# Altium schematic symbol library MyLibs_Microcontrollers.SchLib: 5 symbols
Pins are listed as number, name and electrical type; pins without a type are passive.

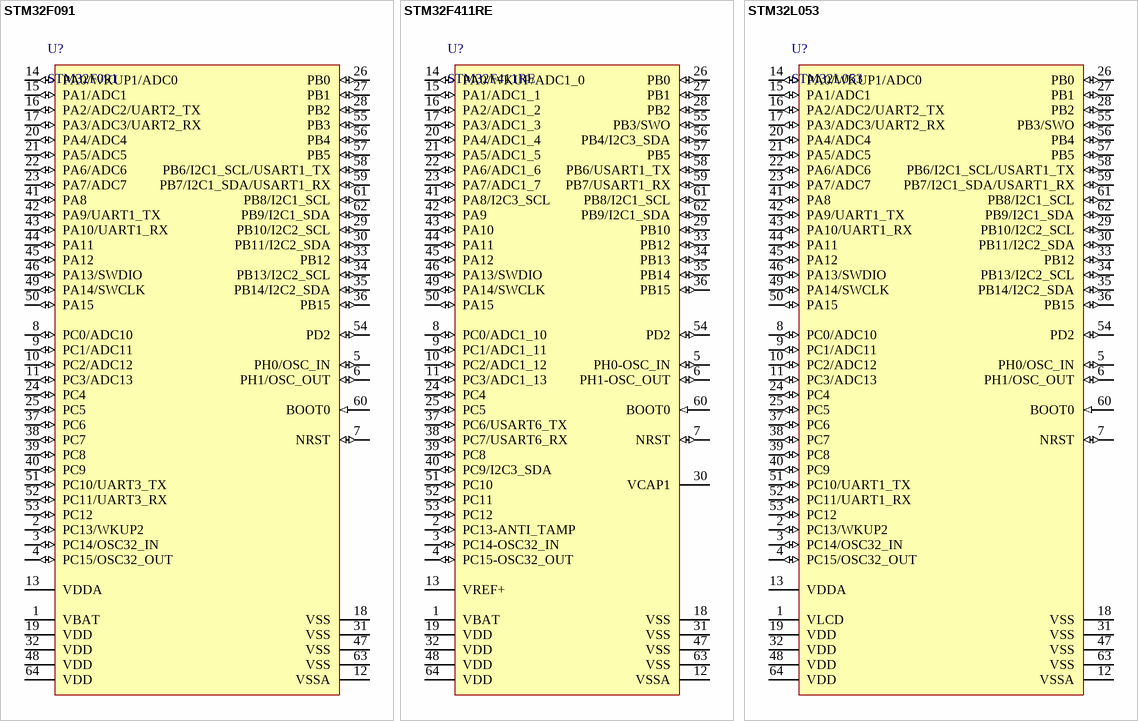
[diagram p0: symbols STM32F091 to STM32L053]

## STM32F091
designator U?
IC MCU 32BIT 256KB FLASH 64LQFP
pins: 1 VBAT (power), 2 PC13/WKUP2 (io) "PC13-ANTI_TAMP/RTC_AMP1,RTC_OUT,RTC_TS", 3 PC14/OSC32_IN (io), 4 PC15/OSC32_OUT (io), 5 PH0/OSC_IN (io), 6 PH1/OSC_OUT (io), 7 NRST (io) "NRST/EVENTOUT", 8 PC0/ADC10 (io) "PC0/EVENTOUT/ADC1_10", 9 PC1/ADC11 (io) "PC1/EVENTOUT/ADC1_11", 10 PC2/ADC12 (io) "PC2/SPI2_MISO,I2S2EXT_SD,EVENTOUT/ADC1_12", 11 PC3/ADC13 (io) "PC3/SPI2_MOSI/I2S2_SD,EVENTOUT/ADC1_13", 12 VSSA (power), 13 VDDA (power) "VREF+", 14 PA0/WKUP1/ADC0 (io) "PA0-WKUP/TIM2_CH1/TIM2_ET,TIM5_CH1,USART2_CTS,EVENTOUT/ADC1_0,WKUP1", 15 PA1/ADC1 (io) "PA1/TIM2_CH2,TIM5_CH2,SPI4_MOSI/I2S4_SD,USART2_RTS,EVENTOUT/ADC1_1", 16 PA2/ADC2/UART2_TX (io) "PA2/TIM2_CH3,TIM5_CH3,TIM9_CH1,I2S2_CKIN,USART2_TX,EVENTOUT/ADC1_2", 17 PA3/ADC3/UART2_RX (io) "PA3/TIM2_CH4,TIM5_CH4,TIM9_CH2,I2S2_MCK,USART2_RX,EVENTOUT/ADC1_3", 18 VSS (power), 19 VDD (power) "VDD/EVENTOUT", 20 PA4/ADC4 (io) "PA4/SPI1_NSS/I2S1_WS,SPI3_NSS/I2S3_WS,USART2_CK,EVENTOUT/ADC1_4", 21 PA5/ADC5 (io) "PA5/TIM2_CH1/TIM2_ET,SPI1_SCK/I2S1_CK,EVENTOUT/ADC1_5", 22 PA6/ADC6 (io) "PA6/TIM1_BKIN,TIM3_CH1,SPI1_MISO,I2S2_MCK,SDIO_CMD,EVENTOUT/ADC1_6", 23 PA7/ADC7 (io) "PA7/TIM1_CH1N,TIM3_CH2,SPI1_MOSI/I2S1_SD,EVENTOUT/ADC1_7", 24 PC4 (io) "PC4/EVENTOUT/ADC1_14", 25 PC5 (io) "PC5/EVENTOUT/ADC1_15", 26 PB0 (io) "PB0/TIM1_CH2N,TIM3_CH3,SPI5_SCK/I2S5_CK,EVENTOUT/ADC1_8", 27 PB1 (io) "PB1/TIM1_CH3N,TIM3_CH4,SPI5_NSS/I2S5_WS,EVENTOUT/ADC1_9", 28 PB2 (io) "PB2/EVENTOUT/BOOT1", 29 PB10/I2C2_SCL (io) "PB10/TIM2_CH3,I2C2_SCL,SPI2_SCK/I2S2_CK,I2S3_MCK,SDIO_D7,EVENTOUT", 30 PB11/I2C2_SDA (io) "VCAP1", 31 VSS (power), 32 VDD (power), 33 PB12 (io) "PB12/TIM1_BKIN,I2C2_SMBA,SPI2_NSS/I2S2_WS,SPI4_NSS/I2S4_WS,SPI3_SCK/I2S3_CK,EVENTOUT", 34 PB13/I2C2_SCL (io) "PB13/TIM1_CH1N,SPI2_SCK/I2S2_CK,SPI4_SCK/I2S4_CK,EVENTOUT", 35 PB14/I2C2_SDA (io) "PB14/TIM1_CH2N,SPI2_MISO,I2S2EXT_SD,SDIO_D6,EVENTOUT", 36 PB15 (io) "PB15/RTC_50Hz,TIM1_CH3N,SPI2_MOSI/I2S2_SD,SDIO_CK,EVENTOUT/RTC_REFIN", 37 PC6 (io) "PC6/TIM3_CH1,I2S2_MCK,USART6_TX,SDIO_D6,EVENTOUT", 38 PC7 (io) "PC7/TIM3_CH2,SPI2_SCK/I2S2_CK,I2S3_MCK,USART6_RX,SDIO_D7,EVENTOUT", 39 PC8 (io) "PC8/TIM3_CH3,USART6_CK,SDIO_D0,EVENTOUT", 40 PC9 (io) "PC9/MCO_2,TIM3_CH4,I2C3_SDA,I2S2_CKIN,SDIO_D1,EVENTOUT", 41 PA8 (io) "PA8/MCO_1,TIM1_CH1,I2C3_SCL,USART1_CK,USB_FS_SOF,SDIO_D1,EVENTOUT", 42 PA9/UART1_TX (io) "PA9/TIM1_CH2,I2C3_SMBA,USART1_TX,USB_FS_VBUS,SDIO_D2,EVENTOUT/OTG_FS_VBUS", 43 PA10/UART1_RX (io) "PA10/TIM1_CH3,SPI5_MOSI/I2S5_SD,USART1_RX,USB_FS_ID,EVENTOUT", 44 PA11 (io) "PA11/TIM1_CH4,SPI4_MISO,USART1_CTS,USART6_TX,USB_FS_DM,EVENTOUT", 45 PA12 (io) "PA12/TIM1_ETR,SPI5_MISO,USART1_RTS,USART6_RX,USB_FS_DP,EVENTOUT", 46 PA13/SWDIO (io) "PA13/JTMS-SWDIO,EVENTOUT", 47 VSS (power), 48 VDD (power), 49 PA14/SWCLK (io) "PA14/JTCK-SWCLK,EVENTOUT", 50 PA15 (io) "PA15/JTDI,TIM2_CH1/TIM2_ETR,SPI1_NSS/I2S1_WS,SPI3_NSS/I2S3_WS,USART1_TX,EVENTOUT", 51 PC10/UART3_TX (io) "PC10/SPI3_SCK/I2S3_CK,SDIO_D2,EVENTOUT", 52 PC11/UART3_RX (io) "PC11/I2S3EXT_SD,SPI3_MISO,SDIO_D3,EVENTOUT", 53 PC12 (io) "PC12/SPI3_MOSI/I2S3_SD,SDIO_CK,EVENTOUT", 54 PD2 (io) "PD2/TIM3_ETR,SDIO_CMD,EVENTOUT", 55 PB3 (io) "PB3/JTDO-SWO,TIM2_CH2,SPI1_SCK/I2S1_CK,SPI3_SCK/I2S3_CK,USART1_RX,I2C2_SDA,EVENTOUT", 56 PB4 (io) "PB4/JTRST,TIM3_CH1,SPI1_MISO,SPI3_MISO,I2S3EXT_SD,I2C3_SDA,SDIO_D0,EVENTOUT", 57 PB5 (io) "PB5/TIM3_CH2,I2C1_SMBA,SPI1_MOSI/I2S1_SD,SPI3_MOSI/I2S3_SD,SDIO_D3,EVENTOUT", 58 PB6/I2C1_SCL/USART1_TX (io) "PB6/TIM4_CH1,I2C1_SCL,USART1_TX,EVENTOUT", 59 PB7/I2C1_SDA/USART1_RX (io) "PB7/TIM4_CH2,I2C1_SDA,USART1_RX,SDIO_D0,EVENTOUT", 60 BOOT0 (in) "BOOT0/VPP", 61 PB8/I2C1_SCL (io) "PB8/TIM4_CH3,TIM10_CH1,I2C1_SCL,SPI5_MOSI/I2S5_SD,I2C3_SDA,SDIO_D4,EVENTOUT", 62 PB9/I2C1_SDA (io) "PB9/TIM4_CH4,TIM11_CH1,I2C1_SDA,SPI2_NSS/I2S2_WS,I2C2_SDA,SDIO_D5,EVENTOUT", 63 VSS (power), 64 VDD (power)

## STM32F411RE
designator U?
IC MCU 32BIT 512KB FLASH 64LQFP
pins: 1 VBAT (power), 2 PC13-ANTI_TAMP (io) "PC13-ANTI_TAMP/RTC_AMP1,RTC_OUT,RTC_TS", 3 PC14-OSC32_IN (io) "PC14/OSC32_IN", 4 PC15-OSC32_OUT (io) "PC15/OSC32_OUT", 5 PH0-OSC_IN (io) "PH0/OSC_IN", 6 PH1-OSC_OUT (io) "PH1/OSC_OUT", 7 NRST (io) "NRST/EVENTOUT", 8 PC0/ADC1_10 (io) "PC0/EVENTOUT/ADC1_10", 9 PC1/ADC1_11 (io) "PC1/EVENTOUT/ADC1_11", 10 PC2/ADC1_12 (io) "PC2/SPI2_MISO,I2S2EXT_SD,EVENTOUT/ADC1_12", 11 PC3/ADC1_13 (io) "PC3/SPI2_MOSI/I2S2_SD,EVENTOUT/ADC1_13", 12 VSSA (power), 13 VREF+ (power), 14 PA0/WKUP/ADC1_0 (io) "PA0-WKUP/TIM2_CH1/TIM2_ET,TIM5_CH1,USART2_CTS,EVENTOUT/ADC1_0,WKUP1", 15 PA1/ADC1_1 (io) "PA1/TIM2_CH2,TIM5_CH2,SPI4_MOSI/I2S4_SD,USART2_RTS,EVENTOUT/ADC1_1", 16 PA2/ADC1_2 (io) "PA2/TIM2_CH3,TIM5_CH3,TIM9_CH1,I2S2_CKIN,USART2_TX,EVENTOUT/ADC1_2", 17 PA3/ADC1_3 (io) "PA3/TIM2_CH4,TIM5_CH4,TIM9_CH2,I2S2_MCK,USART2_RX,EVENTOUT/ADC1_3", 18 VSS (power), 19 VDD (power) "VDD/EVENTOUT", 20 PA4/ADC1_4 (io) "PA4/SPI1_NSS/I2S1_WS,SPI3_NSS/I2S3_WS,USART2_CK,EVENTOUT/ADC1_4", 21 PA5/ADC1_5 (io) "PA5/TIM2_CH1/TIM2_ET,SPI1_SCK/I2S1_CK,EVENTOUT/ADC1_5", 22 PA6/ADC1_6 (io) "PA6/TIM1_BKIN,TIM3_CH1,SPI1_MISO,I2S2_MCK,SDIO_CMD,EVENTOUT/ADC1_6", 23 PA7/ADC1_7 (io) "PA7/TIM1_CH1N,TIM3_CH2,SPI1_MOSI/I2S1_SD,EVENTOUT/ADC1_7", 24 PC4 (io) "PC4/EVENTOUT/ADC1_14", 25 PC5 (io) "PC5/EVENTOUT/ADC1_15", 26 PB0 (io) "PB0/TIM1_CH2N,TIM3_CH3,SPI5_SCK/I2S5_CK,EVENTOUT/ADC1_8", 27 PB1 (io) "PB1/TIM1_CH3N,TIM3_CH4,SPI5_NSS/I2S5_WS,EVENTOUT/ADC1_9", 28 PB2 (io) "PB2/EVENTOUT/BOOT1", 29 PB10 (io) "PB10/TIM2_CH3,I2C2_SCL,SPI2_SCK/I2S2_CK,I2S3_MCK,SDIO_D7,EVENTOUT", 30 VCAP1, 31 VSS (power), 32 VDD (power), 33 PB12 (io) "PB12/TIM1_BKIN,I2C2_SMBA,SPI2_NSS/I2S2_WS,SPI4_NSS/I2S4_WS,SPI3_SCK/I2S3_CK,EVENTOUT", 34 PB13 (io) "PB13/TIM1_CH1N,SPI2_SCK/I2S2_CK,SPI4_SCK/I2S4_CK,EVENTOUT", 35 PB14 (io) "PB14/TIM1_CH2N,SPI2_MISO,I2S2EXT_SD,SDIO_D6,EVENTOUT", 36 PB15 (io) "PB15/RTC_50Hz,TIM1_CH3N,SPI2_MOSI/I2S2_SD,SDIO_CK,EVENTOUT/RTC_REFIN", 37 PC6/USART6_TX (io) "PC6/TIM3_CH1,I2S2_MCK,USART6_TX,SDIO_D6,EVENTOUT", 38 PC7/USART6_RX (io) "PC7/TIM3_CH2,SPI2_SCK/I2S2_CK,I2S3_MCK,USART6_RX,SDIO_D7,EVENTOUT", 39 PC8 (io) "PC8/TIM3_CH3,USART6_CK,SDIO_D0,EVENTOUT", 40 PC9/I2C3_SDA (io) "PC9/MCO_2,TIM3_CH4,I2C3_SDA,I2S2_CKIN,SDIO_D1,EVENTOUT", 41 PA8/I2C3_SCL (io) "PA8/MCO_1,TIM1_CH1,I2C3_SCL,USART1_CK,USB_FS_SOF,SDIO_D1,EVENTOUT", 42 PA9 (io) "PA9/TIM1_CH2,I2C3_SMBA,USART1_TX,USB_FS_VBUS,SDIO_D2,EVENTOUT/OTG_FS_VBUS", 43 PA10 (io) "PA10/TIM1_CH3,SPI5_MOSI/I2S5_SD,USART1_RX,USB_FS_ID,EVENTOUT", 44 PA11 (io) "PA11/TIM1_CH4,SPI4_MISO,USART1_CTS,USART6_TX,USB_FS_DM,EVENTOUT", 45 PA12 (io) "PA12/TIM1_ETR,SPI5_MISO,USART1_RTS,USART6_RX,USB_FS_DP,EVENTOUT", 46 PA13/SWDIO (io) "PA13/JTMS-SWDIO,EVENTOUT", 47 VSS (power), 48 VDD (power), 49 PA14/SWCLK (io) "PA14/JTCK-SWCLK,EVENTOUT", 50 PA15 (io) "PA15/JTDI,TIM2_CH1/TIM2_ETR,SPI1_NSS/I2S1_WS,SPI3_NSS/I2S3_WS,USART1_TX,EVENTOUT", 51 PC10 (io) "PC10/SPI3_SCK/I2S3_CK,SDIO_D2,EVENTOUT", 52 PC11 (io) "PC11/I2S3EXT_SD,SPI3_MISO,SDIO_D3,EVENTOUT", 53 PC12 (io) "PC12/SPI3_MOSI/I2S3_SD,SDIO_CK,EVENTOUT", 54 PD2 (io) "PD2/TIM3_ETR,SDIO_CMD,EVENTOUT", 55 PB3/SWO (io) "PB3/JTDO-SWO,TIM2_CH2,SPI1_SCK/I2S1_CK,SPI3_SCK/I2S3_CK,USART1_RX,I2C2_SDA,EVENTOUT", 56 PB4/I2C3_SDA (io) "PB4/JTRST,TIM3_CH1,SPI1_MISO,SPI3_MISO,I2S3EXT_SD,I2C3_SDA,SDIO_D0,EVENTOUT", 57 PB5 (io) "PB5/TIM3_CH2,I2C1_SMBA,SPI1_MOSI/I2S1_SD,SPI3_MOSI/I2S3_SD,SDIO_D3,EVENTOUT", 58 PB6/USART1_TX (io) "PB6/TIM4_CH1,I2C1_SCL,USART1_TX,EVENTOUT", 59 PB7/USART1_RX (io) "PB7/TIM4_CH2,I2C1_SDA,USART1_RX,SDIO_D0,EVENTOUT", 60 BOOT0 (in) "BOOT0/VPP", 61 PB8/I2C1_SCL (io) "PB8/TIM4_CH3,TIM10_CH1,I2C1_SCL,SPI5_MOSI/I2S5_SD,I2C3_SDA,SDIO_D4,EVENTOUT", 62 PB9/I2C1_SDA (io) "PB9/TIM4_CH4,TIM11_CH1,I2C1_SDA,SPI2_NSS/I2S2_WS,I2C2_SDA,SDIO_D5,EVENTOUT", 63 VSS (power), 64 VDD (power)

## STM32L053
designator U?
IC MCU 32BIT 64KB FLASH 64LQFP
pins: 1 VLCD (power) "VBAT", 2 PC13/WKUP2 (io) "PC13-ANTI_TAMP/RTC_AMP1,RTC_OUT,RTC_TS", 3 PC14/OSC32_IN (io), 4 PC15/OSC32_OUT (io), 5 PH0/OSC_IN (io), 6 PH1/OSC_OUT (io), 7 NRST (io) "NRST/EVENTOUT", 8 PC0/ADC10 (io) "PC0/EVENTOUT/ADC1_10", 9 PC1/ADC11 (io) "PC1/EVENTOUT/ADC1_11", 10 PC2/ADC12 (io) "PC2/SPI2_MISO,I2S2EXT_SD,EVENTOUT/ADC1_12", 11 PC3/ADC13 (io) "PC3/SPI2_MOSI/I2S2_SD,EVENTOUT/ADC1_13", 12 VSSA (power), 13 VDDA (power) "VREF+", 14 PA0/WKUP1/ADC0 (io) "PA0-WKUP/TIM2_CH1/TIM2_ET,TIM5_CH1,USART2_CTS,EVENTOUT/ADC1_0,WKUP1", 15 PA1/ADC1 (io) "PA1/TIM2_CH2,TIM5_CH2,SPI4_MOSI/I2S4_SD,USART2_RTS,EVENTOUT/ADC1_1", 16 PA2/ADC2/UART2_TX (io) "PA2/TIM2_CH3,TIM5_CH3,TIM9_CH1,I2S2_CKIN,USART2_TX,EVENTOUT/ADC1_2", 17 PA3/ADC3/UART2_RX (io) "PA3/TIM2_CH4,TIM5_CH4,TIM9_CH2,I2S2_MCK,USART2_RX,EVENTOUT/ADC1_3", 18 VSS (power), 19 VDD (power) "VDD/EVENTOUT", 20 PA4/ADC4 (io) "PA4/SPI1_NSS/I2S1_WS,SPI3_NSS/I2S3_WS,USART2_CK,EVENTOUT/ADC1_4", 21 PA5/ADC5 (io) "PA5/TIM2_CH1/TIM2_ET,SPI1_SCK/I2S1_CK,EVENTOUT/ADC1_5", 22 PA6/ADC6 (io) "PA6/TIM1_BKIN,TIM3_CH1,SPI1_MISO,I2S2_MCK,SDIO_CMD,EVENTOUT/ADC1_6", 23 PA7/ADC7 (io) "PA7/TIM1_CH1N,TIM3_CH2,SPI1_MOSI/I2S1_SD,EVENTOUT/ADC1_7", 24 PC4 (io) "PC4/EVENTOUT/ADC1_14", 25 PC5 (io) "PC5/EVENTOUT/ADC1_15", 26 PB0 (io) "PB0/TIM1_CH2N,TIM3_CH3,SPI5_SCK/I2S5_CK,EVENTOUT/ADC1_8", 27 PB1 (io) "PB1/TIM1_CH3N,TIM3_CH4,SPI5_NSS/I2S5_WS,EVENTOUT/ADC1_9", 28 PB2 (io) "PB2/EVENTOUT/BOOT1", 29 PB10/I2C2_SCL (io) "PB10/TIM2_CH3,I2C2_SCL,SPI2_SCK/I2S2_CK,I2S3_MCK,SDIO_D7,EVENTOUT", 30 PB11/I2C2_SDA (io) "VCAP1", 31 VSS (power), 32 VDD (power), 33 PB12 (io) "PB12/TIM1_BKIN,I2C2_SMBA,SPI2_NSS/I2S2_WS,SPI4_NSS/I2S4_WS,SPI3_SCK/I2S3_CK,EVENTOUT", 34 PB13/I2C2_SCL (io) "PB13/TIM1_CH1N,SPI2_SCK/I2S2_CK,SPI4_SCK/I2S4_CK,EVENTOUT", 35 PB14/I2C2_SDA (io) "PB14/TIM1_CH2N,SPI2_MISO,I2S2EXT_SD,SDIO_D6,EVENTOUT", 36 PB15 (io) "PB15/RTC_50Hz,TIM1_CH3N,SPI2_MOSI/I2S2_SD,SDIO_CK,EVENTOUT/RTC_REFIN", 37 PC6 (io) "PC6/TIM3_CH1,I2S2_MCK,USART6_TX,SDIO_D6,EVENTOUT", 38 PC7 (io) "PC7/TIM3_CH2,SPI2_SCK/I2S2_CK,I2S3_MCK,USART6_RX,SDIO_D7,EVENTOUT", 39 PC8 (io) "PC8/TIM3_CH3,USART6_CK,SDIO_D0,EVENTOUT", 40 PC9 (io) "PC9/MCO_2,TIM3_CH4,I2C3_SDA,I2S2_CKIN,SDIO_D1,EVENTOUT", 41 PA8 (io) "PA8/MCO_1,TIM1_CH1,I2C3_SCL,USART1_CK,USB_FS_SOF,SDIO_D1,EVENTOUT", 42 PA9/UART1_TX (io) "PA9/TIM1_CH2,I2C3_SMBA,USART1_TX,USB_FS_VBUS,SDIO_D2,EVENTOUT/OTG_FS_VBUS", 43 PA10/UART1_RX (io) "PA10/TIM1_CH3,SPI5_MOSI/I2S5_SD,USART1_RX,USB_FS_ID,EVENTOUT", 44 PA11 (io) "PA11/TIM1_CH4,SPI4_MISO,USART1_CTS,USART6_TX,USB_FS_DM,EVENTOUT", 45 PA12 (io) "PA12/TIM1_ETR,SPI5_MISO,USART1_RTS,USART6_RX,USB_FS_DP,EVENTOUT", 46 PA13/SWDIO (io) "PA13/JTMS-SWDIO,EVENTOUT", 47 VSS (power), 48 VDD (power), 49 PA14/SWCLK (io) "PA14/JTCK-SWCLK,EVENTOUT", 50 PA15 (io) "PA15/JTDI,TIM2_CH1/TIM2_ETR,SPI1_NSS/I2S1_WS,SPI3_NSS/I2S3_WS,USART1_TX,EVENTOUT", 51 PC10/UART1_TX (io) "PC10/SPI3_SCK/I2S3_CK,SDIO_D2,EVENTOUT", 52 PC11/UART1_RX (io) "PC11/I2S3EXT_SD,SPI3_MISO,SDIO_D3,EVENTOUT", 53 PC12 (io) "PC12/SPI3_MOSI/I2S3_SD,SDIO_CK,EVENTOUT", 54 PD2 (io) "PD2/TIM3_ETR,SDIO_CMD,EVENTOUT", 55 PB3/SWO (io) "PB3/JTDO-SWO,TIM2_CH2,SPI1_SCK/I2S1_CK,SPI3_SCK/I2S3_CK,USART1_RX,I2C2_SDA,EVENTOUT", 56 PB4 (io) "PB4/JTRST,TIM3_CH1,SPI1_MISO,SPI3_MISO,I2S3EXT_SD,I2C3_SDA,SDIO_D0,EVENTOUT", 57 PB5 (io) "PB5/TIM3_CH2,I2C1_SMBA,SPI1_MOSI/I2S1_SD,SPI3_MOSI/I2S3_SD,SDIO_D3,EVENTOUT", 58 PB6/I2C1_SCL/USART1_TX (io) "PB6/TIM4_CH1,I2C1_SCL,USART1_TX,EVENTOUT", 59 PB7/I2C1_SDA/USART1_RX (io) "PB7/TIM4_CH2,I2C1_SDA,USART1_RX,SDIO_D0,EVENTOUT", 60 BOOT0 (in) "BOOT0/VPP", 61 PB8/I2C1_SCL (io) "PB8/TIM4_CH3,TIM10_CH1,I2C1_SCL,SPI5_MOSI/I2S5_SD,I2C3_SDA,SDIO_D4,EVENTOUT", 62 PB9/I2C1_SDA (io) "PB9/TIM4_CH4,TIM11_CH1,I2C1_SDA,SPI2_NSS/I2S2_WS,I2C2_SDA,SDIO_D5,EVENTOUT", 63 VSS (power), 64 VDD (power)

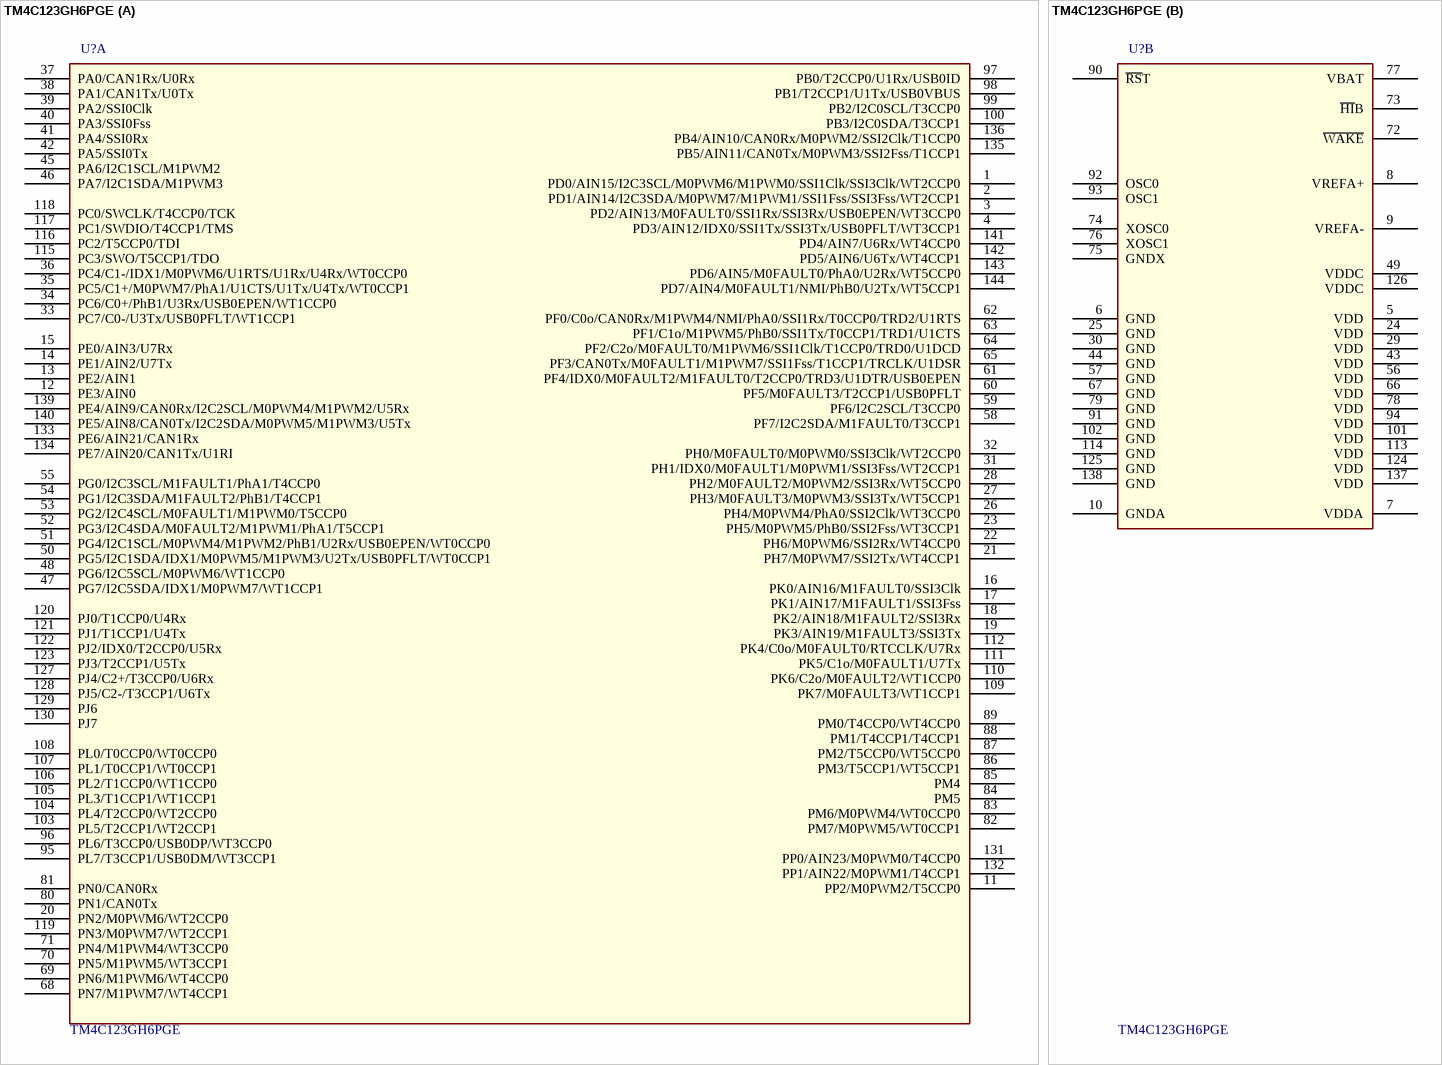
[diagram p1: symbol TM4C123GH6PGE]

## TM4C123GH6PGE
designator U?
ARM® Cortex®-M4F Tiva™ C Microcontroller IC 32-Bit 80MHz 256KB (256K x 8) FLASH 144-LQFP (20x20); Manufacturer: Texas Instruments; Manufacturer Part Number: TM4C123GH6PGE
footprint NXP LQFP-144 SOT486-1 (TQFP, 144-Leads, Body 20.00x20.00mm, Pitch 0.50mm, IPC Medium Density)
part A pins: 1 PD0/AIN15/I2C3SCL/M0PWM6/M1PWM0/SSI1Clk/SSI3Clk/WT2CCP0, 2 PD1/AIN14/I2C3SDA/M0PWM7/M1PWM1/SSI1Fss/SSI3Fss/WT2CCP1, 3 PD2/AIN13/M0FAULT0/SSI1Rx/SSI3Rx/USB0EPEN/WT3CCP0, 4 PD3/AIN12/IDX0/SSI1Tx/SSI3Tx/USB0PFLT/WT3CCP1, 11 PP2/M0PWM2/T5CCP0, 12 PE3/AIN0, 13 PE2/AIN1, 14 PE1/AIN2/U7Tx, 15 PE0/AIN3/U7Rx, 16 PK0/AIN16/M1FAULT0/SSI3Clk, 17 PK1/AIN17/M1FAULT1/SSI3Fss, 18 PK2/AIN18/M1FAULT2/SSI3Rx, 19 PK3/AIN19/M1FAULT3/SSI3Tx, 20 PN2/M0PWM6/WT2CCP0, 21 PH7/M0PWM7/SSI2Tx/WT4CCP1, 22 PH6/M0PWM6/SSI2Rx/WT4CCP0, 23 PH5/M0PWM5/PhB0/SSI2Fss/WT3CCP1, 26 PH4/M0PWM4/PhA0/SSI2Clk/WT3CCP0, 27 PH3/M0FAULT3/M0PWM3/SSI3Tx/WT5CCP1, 28 PH2/M0FAULT2/M0PWM2/SSI3Rx/WT5CCP0, 31 PH1/IDX0/M0FAULT1/M0PWM1/SSI3Fss/WT2CCP1, 32 PH0/M0FAULT0/M0PWM0/SSI3Clk/WT2CCP0, 33 PC7/C0-/U3Tx/USB0PFLT/WT1CCP1, 34 PC6/C0+/PhB1/U3Rx/USB0EPEN/WT1CCP0, 35 PC5/C1+/M0PWM7/PhA1/U1CTS/U1Tx/U4Tx/WT0CCP1, 36 PC4/C1-/IDX1/M0PWM6/U1RTS/U1Rx/U4Rx/WT0CCP0, 37 PA0/CAN1Rx/U0Rx, 38 PA1/CAN1Tx/U0Tx, 39 PA2/SSI0Clk, 40 PA3/SSI0Fss, 41 PA4/SSI0Rx, 42 PA5/SSI0Tx, 45 PA6/I2C1SCL/M1PWM2, 46 PA7/I2C1SDA/M1PWM3, 47 PG7/I2C5SDA/IDX1/M0PWM7/WT1CCP1, 48 PG6/I2C5SCL/M0PWM6/WT1CCP0, 50 PG5/I2C1SDA/IDX1/M0PWM5/M1PWM3/U2Tx/USB0PFLT/WT0CCP1, 51 PG4/I2C1SCL/M0PWM4/M1PWM2/PhB1/U2Rx/USB0EPEN/WT0CCP0, 52 PG3/I2C4SDA/M0FAULT2/M1PWM1/PhA1/T5CCP1, 53 PG2/I2C4SCL/M0FAULT1/M1PWM0/T5CCP0, 54 PG1/I2C3SDA/M1FAULT2/PhB1/T4CCP1, 55 PG0/I2C3SCL/M1FAULT1/PhA1/T4CCP0, 58 PF7/I2C2SDA/M1FAULT0/T3CCP1, 59 PF6/I2C2SCL/T3CCP0, 60 PF5/M0FAULT3/T2CCP1/USB0PFLT, 61 PF4/IDX0/M0FAULT2/M1FAULT0/T2CCP0/TRD3/U1DTR/USB0EPEN, 62 PF0/C0o/CAN0Rx/M1PWM4/NMI/PhA0/SSI1Rx/T0CCP0/TRD2/U1RTS, 63 PF1/C1o/M1PWM5/PhB0/SSI1Tx/T0CCP1/TRD1/U1CTS, 64 PF2/C2o/M0FAULT0/M1PWM6/SSI1Clk/T1CCP0/TRD0/U1DCD, 65 PF3/CAN0Tx/M0FAULT1/M1PWM7/SSI1Fss/T1CCP1/TRCLK/U1DSR, 68 PN7/M1PWM7/WT4CCP1, 69 PN6/M1PWM6/WT4CCP0, 70 PN5/M1PWM5/WT3CCP1, 71 PN4/M1PWM4/WT3CCP0, 80 PN1/CAN0Tx, 81 PN0/CAN0Rx, 82 PM7/M0PWM5/WT0CCP1, 83 PM6/M0PWM4/WT0CCP0, 84 PM5, 85 PM4, 86 PM3/T5CCP1/WT5CCP1, 87 PM2/T5CCP0/WT5CCP0, 88 PM1/T4CCP1/T4CCP1, 89 PM0/T4CCP0/WT4CCP0, 95 PL7/T3CCP1/USB0DM/WT3CCP1, 96 PL6/T3CCP0/USB0DP/WT3CCP0, 97 PB0/T2CCP0/U1Rx/USB0ID, 98 PB1/T2CCP1/U1Tx/USB0VBUS, 99 PB2/I2C0SCL/T3CCP0, 100 PB3/I2C0SDA/T3CCP1, 103 PL5/T2CCP1/WT2CCP1, 104 PL4/T2CCP0/WT2CCP0, 105 PL3/T1CCP1/WT1CCP1, 106 PL2/T1CCP0/WT1CCP0, 107 PL1/T0CCP1/WT0CCP1, 108 PL0/T0CCP0/WT0CCP0, 109 PK7/M0FAULT3/WT1CCP1, 110 PK6/C2o/M0FAULT2/WT1CCP0, 111 PK5/C1o/M0FAULT1/U7Tx, 112 PK4/C0o/M0FAULT0/RTCCLK/U7Rx, 115 PC3/SWO/T5CCP1/TDO, 116 PC2/T5CCP0/TDI, 117 PC1/SWDIO/T4CCP1/TMS, 118 PC0/SWCLK/T4CCP0/TCK, 119 PN3/M0PWM7/WT2CCP1, 120 PJ0/T1CCP0/U4Rx, 121 PJ1/T1CCP1/U4Tx, 122 PJ2/IDX0/T2CCP0/U5Rx, 123 PJ3/T2CCP1/U5Tx, 127 PJ4/C2+/T3CCP0/U6Rx, 128 PJ5/C2-/T3CCP1/U6Tx, 129 PJ6, 130 PJ7, 131 PP0/AIN23/M0PWM0/T4CCP0, 132 PP1/AIN22/M0PWM1/T4CCP1, 133 PE6/AIN21/CAN1Rx, 134 PE7/AIN20/CAN1Tx/U1RI, 135 PB5/AIN11/CAN0Tx/M0PWM3/SSI2Fss/T1CCP1, 136 PB4/AIN10/CAN0Rx/M0PWM2/SSI2Clk/T1CCP0, 139 PE4/AIN9/CAN0Rx/I2C2SCL/M0PWM4/M1PWM2/U5Rx, 140 PE5/AIN8/CAN0Tx/I2C2SDA/M0PWM5/M1PWM3/U5Tx, 141 PD4/AIN7/U6Rx/WT4CCP0, 142 PD5/AIN6/U6Tx/WT4CCP1, 143 PD6/AIN5/M0FAULT0/PhA0/U2Rx/WT5CCP0, 144 PD7/AIN4/M0FAULT1/NMI/PhB0/U2Tx/WT5CCP1
part B pins: 5 VDD, 6 GND, 7 VDDA, 8 VREFA+, 9 VREFA-, 10 GNDA, 24 VDD, 25 GND, 29 VDD, 30 GND, 43 VDD, 44 GND, 49 VDDC, 56 VDD, 57 GND, 66 VDD, 67 GND, 72 ~{WAKE}, 73 ~{HI}B, 74 XOSC0, 75 GNDX, 76 XOSC1, 77 VBAT, 78 VDD, 79 GND, 90 ~{RS}T, 91 GND, 92 OSC0, 93 OSC1, 94 VDD, 101 VDD, 102 GND, 113 VDD, 114 GND, 124 VDD, 125 GND, 126 VDDC, 137 VDD, 138 GND

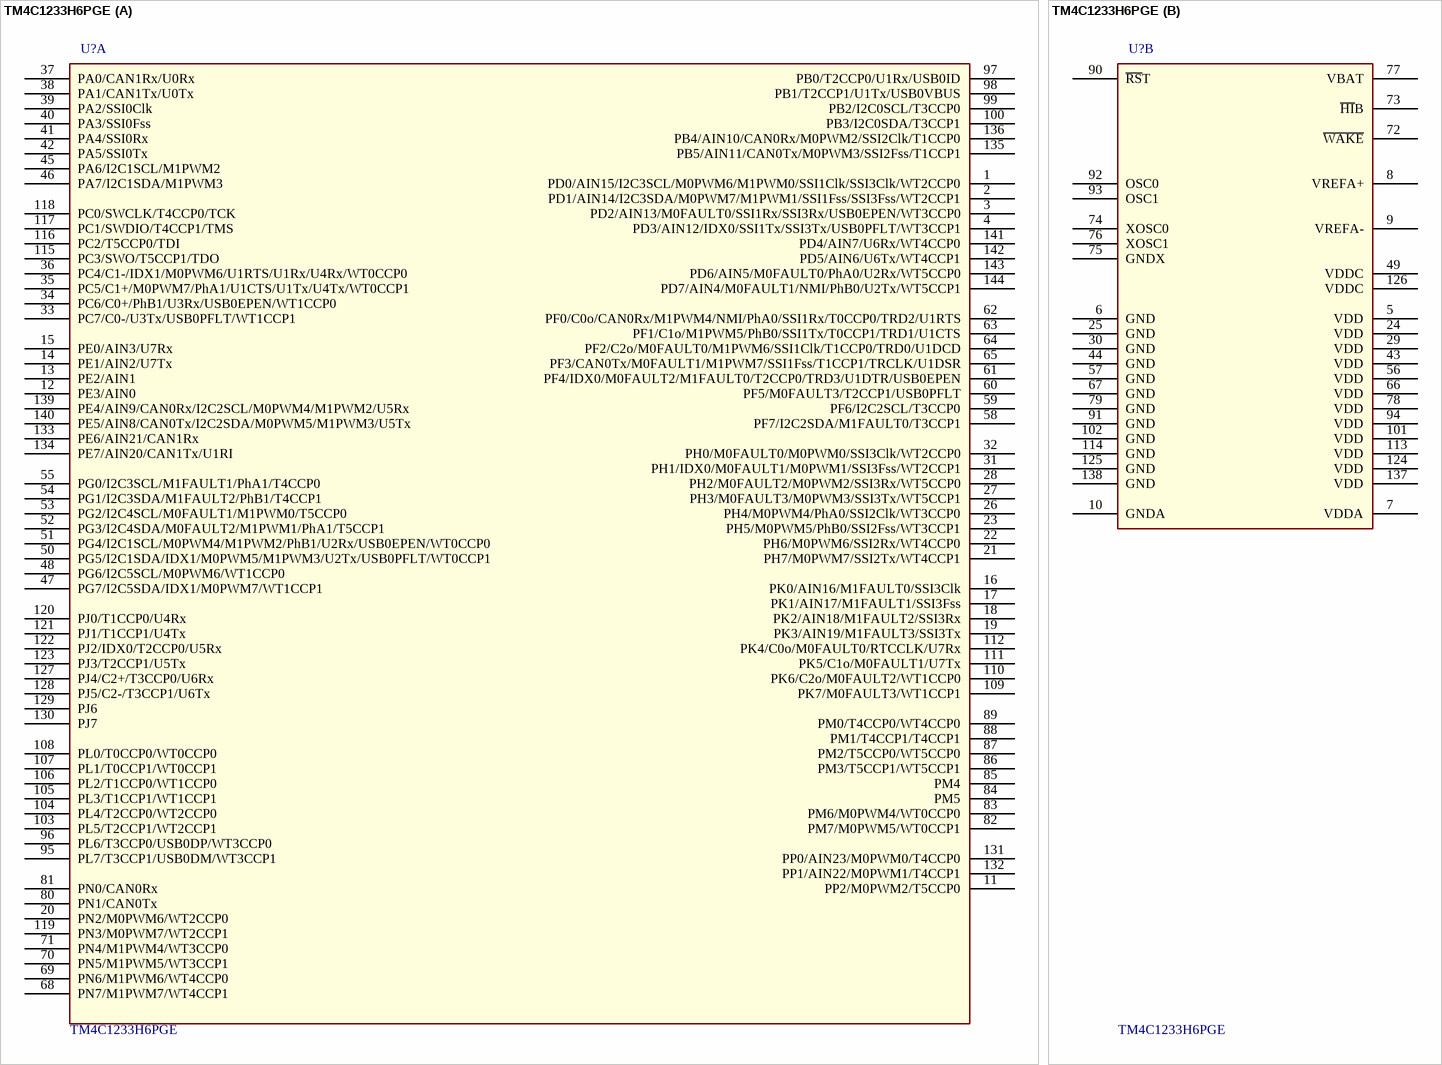
[diagram p2: symbol TM4C1233H6PGE]

## TM4C1233H6PGE
designator U?
ARM® Cortex®-M4F Tiva™ C Microcontroller IC 32-Bit 80MHz 256KB (256K x 8) FLASH 144-LQFP (20x20); Manufacturer: Texas Instruments; Manufacturer Part Number: TM4C1233H6PGE
footprint NXP LQFP-144 SOT486-1 (TQFP, 144-Leads, Body 20.00x20.00mm, Pitch 0.50mm, IPC Medium Density)
part A pins: 1 PD0/AIN15/I2C3SCL/M0PWM6/M1PWM0/SSI1Clk/SSI3Clk/WT2CCP0, 2 PD1/AIN14/I2C3SDA/M0PWM7/M1PWM1/SSI1Fss/SSI3Fss/WT2CCP1, 3 PD2/AIN13/M0FAULT0/SSI1Rx/SSI3Rx/USB0EPEN/WT3CCP0, 4 PD3/AIN12/IDX0/SSI1Tx/SSI3Tx/USB0PFLT/WT3CCP1, 11 PP2/M0PWM2/T5CCP0, 12 PE3/AIN0, 13 PE2/AIN1, 14 PE1/AIN2/U7Tx, 15 PE0/AIN3/U7Rx, 16 PK0/AIN16/M1FAULT0/SSI3Clk, 17 PK1/AIN17/M1FAULT1/SSI3Fss, 18 PK2/AIN18/M1FAULT2/SSI3Rx, 19 PK3/AIN19/M1FAULT3/SSI3Tx, 20 PN2/M0PWM6/WT2CCP0, 21 PH7/M0PWM7/SSI2Tx/WT4CCP1, 22 PH6/M0PWM6/SSI2Rx/WT4CCP0, 23 PH5/M0PWM5/PhB0/SSI2Fss/WT3CCP1, 26 PH4/M0PWM4/PhA0/SSI2Clk/WT3CCP0, 27 PH3/M0FAULT3/M0PWM3/SSI3Tx/WT5CCP1, 28 PH2/M0FAULT2/M0PWM2/SSI3Rx/WT5CCP0, 31 PH1/IDX0/M0FAULT1/M0PWM1/SSI3Fss/WT2CCP1, 32 PH0/M0FAULT0/M0PWM0/SSI3Clk/WT2CCP0, 33 PC7/C0-/U3Tx/USB0PFLT/WT1CCP1, 34 PC6/C0+/PhB1/U3Rx/USB0EPEN/WT1CCP0, 35 PC5/C1+/M0PWM7/PhA1/U1CTS/U1Tx/U4Tx/WT0CCP1, 36 PC4/C1-/IDX1/M0PWM6/U1RTS/U1Rx/U4Rx/WT0CCP0, 37 PA0/CAN1Rx/U0Rx, 38 PA1/CAN1Tx/U0Tx, 39 PA2/SSI0Clk, 40 PA3/SSI0Fss, 41 PA4/SSI0Rx, 42 PA5/SSI0Tx, 45 PA6/I2C1SCL/M1PWM2, 46 PA7/I2C1SDA/M1PWM3, 47 PG7/I2C5SDA/IDX1/M0PWM7/WT1CCP1, 48 PG6/I2C5SCL/M0PWM6/WT1CCP0, 50 PG5/I2C1SDA/IDX1/M0PWM5/M1PWM3/U2Tx/USB0PFLT/WT0CCP1, 51 PG4/I2C1SCL/M0PWM4/M1PWM2/PhB1/U2Rx/USB0EPEN/WT0CCP0, 52 PG3/I2C4SDA/M0FAULT2/M1PWM1/PhA1/T5CCP1, 53 PG2/I2C4SCL/M0FAULT1/M1PWM0/T5CCP0, 54 PG1/I2C3SDA/M1FAULT2/PhB1/T4CCP1, 55 PG0/I2C3SCL/M1FAULT1/PhA1/T4CCP0, 58 PF7/I2C2SDA/M1FAULT0/T3CCP1, 59 PF6/I2C2SCL/T3CCP0, 60 PF5/M0FAULT3/T2CCP1/USB0PFLT, 61 PF4/IDX0/M0FAULT2/M1FAULT0/T2CCP0/TRD3/U1DTR/USB0EPEN, 62 PF0/C0o/CAN0Rx/M1PWM4/NMI/PhA0/SSI1Rx/T0CCP0/TRD2/U1RTS, 63 PF1/C1o/M1PWM5/PhB0/SSI1Tx/T0CCP1/TRD1/U1CTS, 64 PF2/C2o/M0FAULT0/M1PWM6/SSI1Clk/T1CCP0/TRD0/U1DCD, 65 PF3/CAN0Tx/M0FAULT1/M1PWM7/SSI1Fss/T1CCP1/TRCLK/U1DSR, 68 PN7/M1PWM7/WT4CCP1, 69 PN6/M1PWM6/WT4CCP0, 70 PN5/M1PWM5/WT3CCP1, 71 PN4/M1PWM4/WT3CCP0, 80 PN1/CAN0Tx, 81 PN0/CAN0Rx, 82 PM7/M0PWM5/WT0CCP1, 83 PM6/M0PWM4/WT0CCP0, 84 PM5, 85 PM4, 86 PM3/T5CCP1/WT5CCP1, 87 PM2/T5CCP0/WT5CCP0, 88 PM1/T4CCP1/T4CCP1, 89 PM0/T4CCP0/WT4CCP0, 95 PL7/T3CCP1/USB0DM/WT3CCP1, 96 PL6/T3CCP0/USB0DP/WT3CCP0, 97 PB0/T2CCP0/U1Rx/USB0ID, 98 PB1/T2CCP1/U1Tx/USB0VBUS, 99 PB2/I2C0SCL/T3CCP0, 100 PB3/I2C0SDA/T3CCP1, 103 PL5/T2CCP1/WT2CCP1, 104 PL4/T2CCP0/WT2CCP0, 105 PL3/T1CCP1/WT1CCP1, 106 PL2/T1CCP0/WT1CCP0, 107 PL1/T0CCP1/WT0CCP1, 108 PL0/T0CCP0/WT0CCP0, 109 PK7/M0FAULT3/WT1CCP1, 110 PK6/C2o/M0FAULT2/WT1CCP0, 111 PK5/C1o/M0FAULT1/U7Tx, 112 PK4/C0o/M0FAULT0/RTCCLK/U7Rx, 115 PC3/SWO/T5CCP1/TDO, 116 PC2/T5CCP0/TDI, 117 PC1/SWDIO/T4CCP1/TMS, 118 PC0/SWCLK/T4CCP0/TCK, 119 PN3/M0PWM7/WT2CCP1, 120 PJ0/T1CCP0/U4Rx, 121 PJ1/T1CCP1/U4Tx, 122 PJ2/IDX0/T2CCP0/U5Rx, 123 PJ3/T2CCP1/U5Tx, 127 PJ4/C2+/T3CCP0/U6Rx, 128 PJ5/C2-/T3CCP1/U6Tx, 129 PJ6, 130 PJ7, 131 PP0/AIN23/M0PWM0/T4CCP0, 132 PP1/AIN22/M0PWM1/T4CCP1, 133 PE6/AIN21/CAN1Rx, 134 PE7/AIN20/CAN1Tx/U1RI, 135 PB5/AIN11/CAN0Tx/M0PWM3/SSI2Fss/T1CCP1, 136 PB4/AIN10/CAN0Rx/M0PWM2/SSI2Clk/T1CCP0, 139 PE4/AIN9/CAN0Rx/I2C2SCL/M0PWM4/M1PWM2/U5Rx, 140 PE5/AIN8/CAN0Tx/I2C2SDA/M0PWM5/M1PWM3/U5Tx, 141 PD4/AIN7/U6Rx/WT4CCP0, 142 PD5/AIN6/U6Tx/WT4CCP1, 143 PD6/AIN5/M0FAULT0/PhA0/U2Rx/WT5CCP0, 144 PD7/AIN4/M0FAULT1/NMI/PhB0/U2Tx/WT5CCP1
part B pins: 5 VDD, 6 GND, 7 VDDA, 8 VREFA+, 9 VREFA-, 10 GNDA, 24 VDD, 25 GND, 29 VDD, 30 GND, 43 VDD, 44 GND, 49 VDDC, 56 VDD, 57 GND, 66 VDD, 67 GND, 72 ~{WAKE}, 73 ~{HI}B, 74 XOSC0, 75 GNDX, 76 XOSC1, 77 VBAT, 78 VDD, 79 GND, 90 ~{RS}T, 91 GND, 92 OSC0, 93 OSC1, 94 VDD, 101 VDD, 102 GND, 113 VDD, 114 GND, 124 VDD, 125 GND, 126 VDDC, 137 VDD, 138 GND